# EAGLE library part MILLMAXSMTFEMALE-8 (library LAB-ICM100)
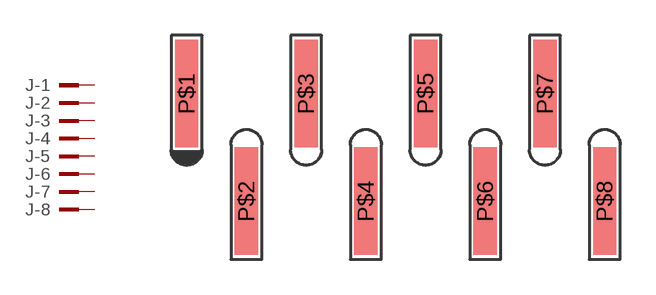
[diagram p3: symbol with the pads of SMTHEADER-8; footprint SMTHEADER-8]

Designator prefix J; gates -1=PIN -2=PIN -3=PIN -4=PIN -5=PIN -6=PIN -7=PIN -8=PIN

## MILLMAXSMTFEMALE-8  [SMTHEADER-8]
P$1  -1:KL  pas
P$2  -2:KL  pas
P$3  -3:KL  pas
P$4  -4:KL  pas
P$5  -5:KL  pas
P$6  -6:KL  pas
P$7  -7:KL  pas
P$8  -8:KL  pas

## Footprint SMTHEADER-8 (pad centres in mm)
smd 0.991 x 4.572: P$1 -7.62,2.286; P$2 -5.08,-2.286; P$3 -2.54,2.286; P$4 0,-2.286; P$5 2.54,2.286; P$6 5.08,-2.286; P$7 7.62,2.286; P$8 10.16,-2.286